# EAGLE library part PT8211 (library Deegou_IC)
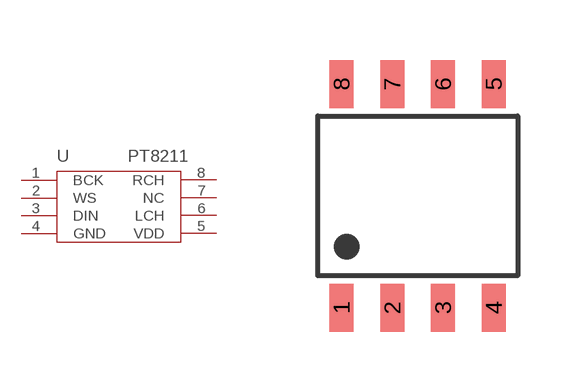
[diagram p40: symbol with the pads of SOIC8-6.0; footprint SOIC8-6.0]

Designator prefix U

## PT8211  [SOIC8-6.0]
1  BCK
2  WS
3  DIN
4  GND
5  VDD
6  LCH
7  NC
8  RCH

## Footprint SOIC8-6.0 (pad centres in mm)
smd 0.6 x 1.2: 1 -1.905,-2.8; 2 -0.635,-2.8; 3 0.635,-2.8; 4 1.905,-2.8; 5 1.905,2.8; 6 0.635,2.8; 7 -0.635,2.8; 8 -1.905,2.8